# Altium footprint library IDC_10PINS.PcbLib: 1 footprints
Each footprint in its own frame and in the unit in brackets; x right, y up, seen from the top. Pads: shape width x height; smd on the part's side, far side on the other; paste and mask are expansions set on the pad; w line width, h text height; cw(c..) or ccw(c..) is an arc to the next point about the centre after c.
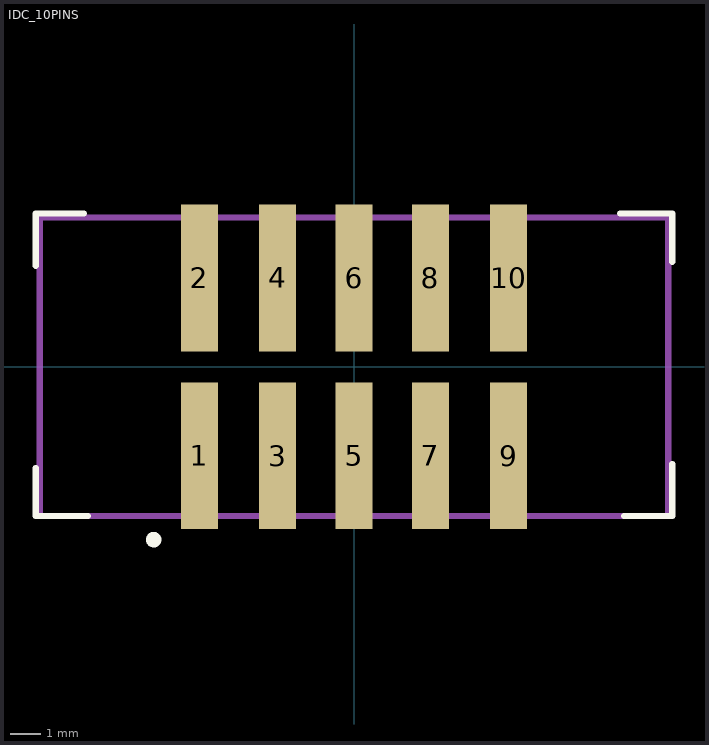
[diagram p0: the footprint, top view; thin cyan lines are the x and y axes]

## IDC_10PINS [mm]
pads (10):
  rect 1.2x4.75 smd paste+0 mask+0: 1(-5,-2.875) 2(-5,2.875) 3(-2.47,-2.875) 4(-2.47,2.875) 5(0,-2.875) 6(0,2.875) 7(2.47,-2.875) 8(2.47,2.875) 9(5,-2.875) 10(5,2.875)
Top Overlay:
  circle w0.25: c-6.477,-5.588 r0.125
  lines w0.2: -10.287,-3.272 -10.287,-4.826 -8.605,-4.826 ; -10.287,3.271 -10.287,4.953 -8.733,4.953 ; 8.605,4.953 10.287,4.953 10.287,3.399 ; 8.733,-4.826 10.287,-4.826 10.287,-3.144
Top Assembly:
  text ".Designator" at 0,-2.687 h1
Top Courtyard:
  lines w0.2: -10.16,-4.826 10.16,-4.826 10.16,4.826 -10.16,4.826 -10.16,-4.826
3D body "3020-10-0300-00 3D.STEP": height 10.3, standoff -0.04, extent -10.16,-4.699 10.16,4.801